# Altium schematic symbol library SCH - LOGIC - TI SN74LVC1G08DCK.SchLib: 1 symbol
Pins are listed as number, name and electrical type; pins without a type are passive.

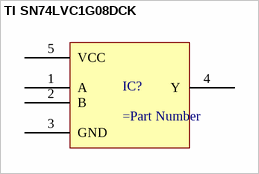
[diagram p0: symbol TI SN74LVC1G08DCK]

## TI SN74LVC1G08DCK
designator IC?
pins: 1 A, 2 B, 3 GND, 4 Y, 5 VCC